# Altium schematic symbol library TMP 60124C.Schlib: 1 symbol
Pins are listed as number, name and electrical type; pins without a type are passive.

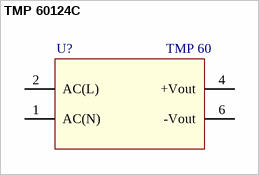
[diagram p0: symbol TMP 60124C]

## TMP 60124C
designator U?, comment TMP 60
Назначение: ВИП; Наименование: TMP 60
footprint TMP 60
pins: 1 AC(N) (oc), 2 AC(L) (oc), 4 +Vout (oc), 6 -Vout (oc)